# Altium footprint library clock.PcbLib: 69 footprints (part 3 of 5)
Each footprint in its own frame and in the unit in brackets; x right, y up, seen from the top. Pads: shape width x height; smd on the part's side, far side on the other; paste and mask are expansions set on the pad; w line width, h text height; cw(c..) or ccw(c..) is an arc to the next point about the centre after c.
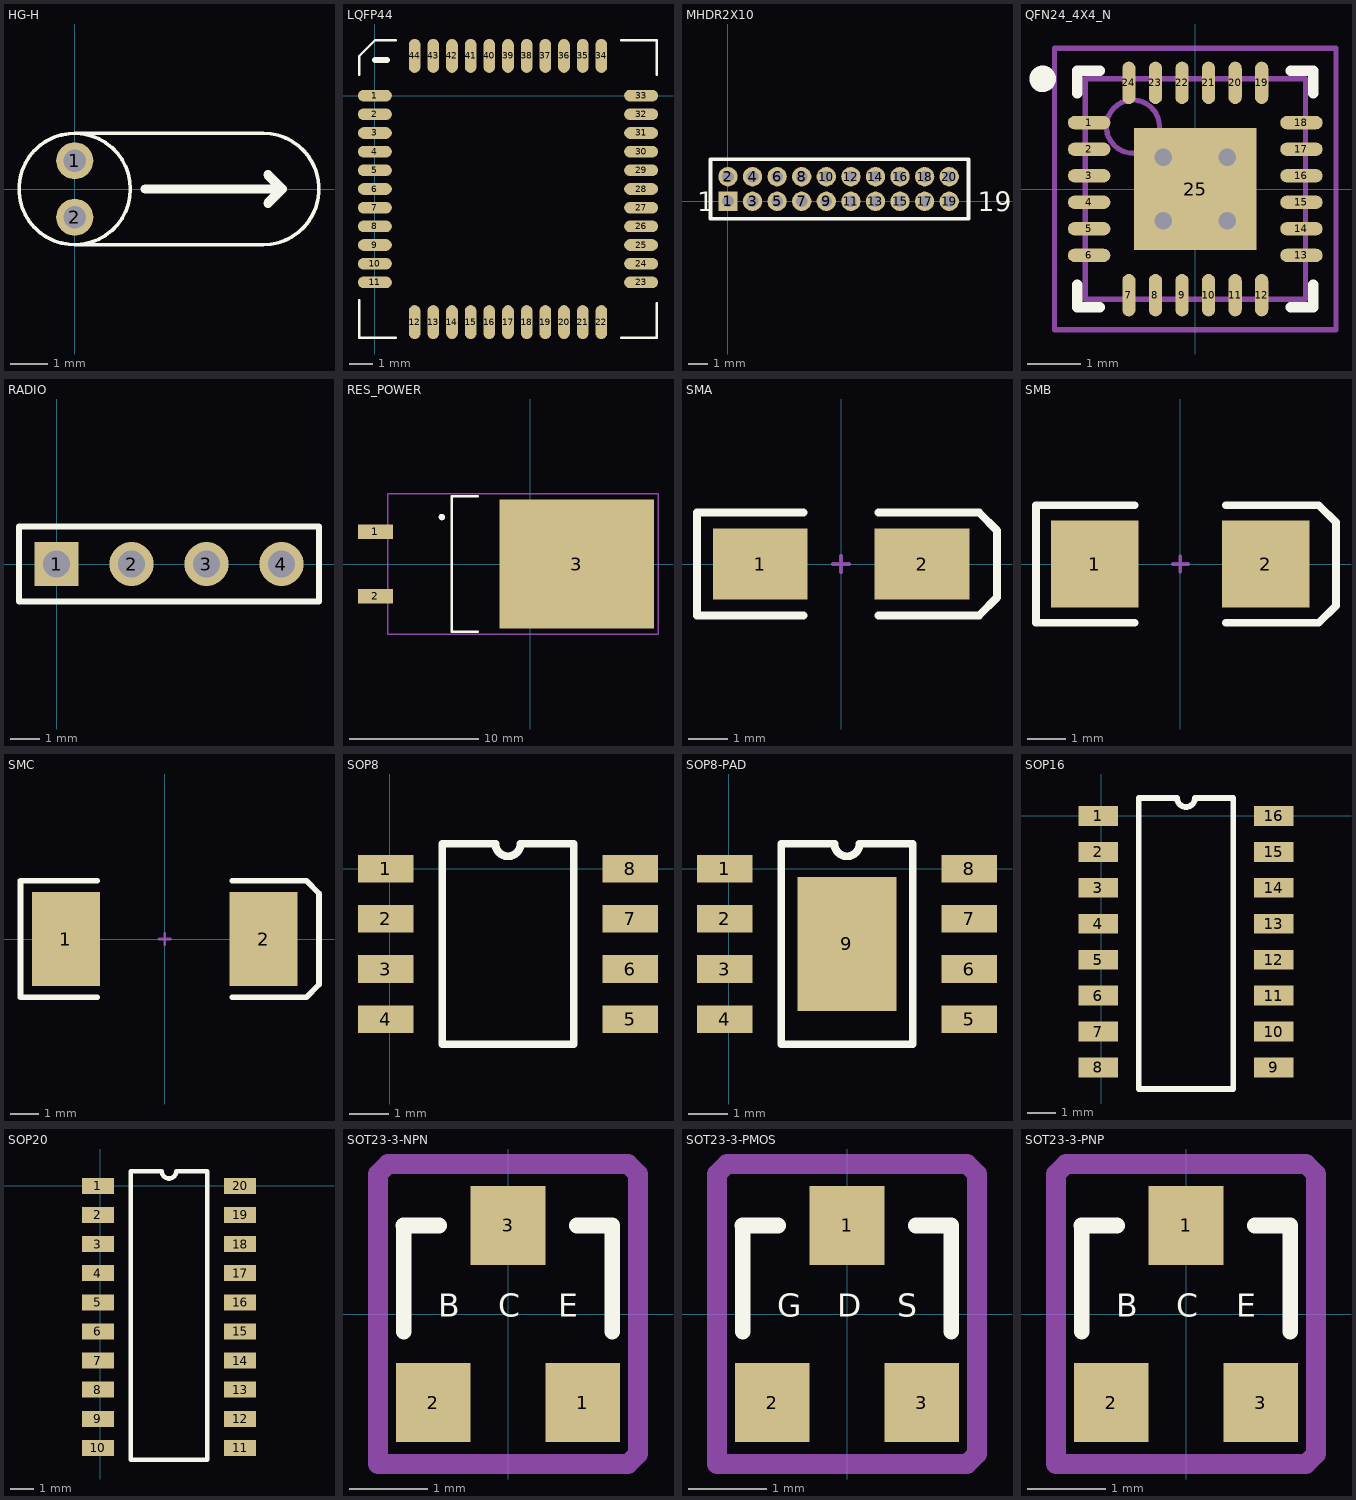
[diagram p2: the footprints below, top view; thin cyan lines are the x and y axes]

## HG-H [mm]
pads (2):
  round 1 hole 0.6: 1(0,0.762) 2(0,-0.762)
Top Overlay:
  circle w0.1: c0,0 r1.5
  lines w0.1: 0,-1.5 5.08,-1.5 ccw(c5.08,0) 5.08,1.5 0,1.5
  lines w0.254: 1.905,0 5.588,0 ; 5.207,-0.381 5.588,0 ; 5.207,0.381 5.588,0

## LQFP44 [mm]
pads (44):
  oval 1.45x0.5 smd: 1(0,0) 2(0,-0.8) 3(0,-1.6) 4(0,-2.4) 5(0,-3.2) 6(0,-4) 7(0,-4.8) 8(0,-5.6) 9(0,-6.4) 10(0,-7.2) 11(0,-8) 23(11.4,-8) 24(11.4,-7.2) 25(11.4,-6.4) 26(11.4,-5.6) 27(11.4,-4.8) 28(11.4,-4) 29(11.4,-3.2) 30(11.4,-2.4) 31(11.4,-1.6) 32(11.4,-0.8) 33(11.4,0)
  oval 0.5x1.45 smd: 12(1.7,-9.7) 13(2.5,-9.7) 14(3.3,-9.7) 15(4.1,-9.7) 16(4.9,-9.7) 17(5.7,-9.7) 18(6.5,-9.7) 19(7.3,-9.7) 20(8.1,-9.7) 21(8.9,-9.7) 22(9.7,-9.7) 34(9.7,1.7) 35(8.9,1.7) 36(8.1,1.7) 37(7.3,1.7) 38(6.5,1.7) 39(5.7,1.7) 40(4.9,1.7) 41(4.1,1.7) 42(3.3,1.7) 43(2.5,1.7) 44(1.7,1.7)
Top Overlay:
  lines w0.1: -0.675,-8.763 -0.675,-10.375 0.889,-10.375 ; -0.675,0.889 -0.675,1.7 0,2.375 0.889,2.375 ; 10.541,-10.375 12.075,-10.375 12.075,-8.89 ; 10.541,2.375 12.075,2.375 12.075,0.889
  lines w0.254: 0,1.524 0.508,1.524

## MHDR2X10 [mm] "Connector; Header; 10x2 Position"
pads (20):
  rect 1x1 hole 0.6: 1(0,0)
  round 1 hole 0.6: 2(0,1.27) 3(1.27,0) 4(1.27,1.27) 5(2.54,0) 6(2.54,1.27) 7(3.81,0) 8(3.81,1.27) 9(5.08,0) 10(5.08,1.27) 11(6.35,0) 12(6.35,1.27) 13(7.62,0) 14(7.62,1.27) 15(8.89,0) 16(8.89,1.27) 17(10.16,0) 18(10.16,1.27) 19(11.43,0) 20(11.43,1.27)
Top Overlay:
  lines w0.2: -0.9,-0.9 12.43,-0.9 12.43,2.17 -0.9,2.17 -0.9,-0.9
  text "1" at -1.6,-0.508 h1
  text "19" at 12.9,-0.508 h1

## QFN24_4X4_N [mm] "QFN, 24-Leads, Body 4x4mm, Pitch 0.5mm, IPC Medium Density"
height 1
pads (25):
  oval 0.8x0.25 smd: 1(-2,1.25) 2(-2,0.75) 3(-2,0.25) 4(-2,-0.25) 5(-2,-0.75) 6(-2,-1.25) 13(2,-1.25) 14(2,-0.75) 15(2,-0.25) 16(2,0.25) 17(2,0.75) 18(2,1.25)
  oval 0.25x0.8 smd: 7(-1.25,-2) 8(-0.75,-2) 9(-0.25,-2) 10(0.25,-2) 11(0.75,-2) 12(1.25,-2) 19(1.25,2) 20(0.75,2) 21(0.25,2) 22(-0.25,2) 23(-0.75,2) 24(-1.25,2)
  rect 2.3x2.3 smd: 25(0,0)
via -0.6,0.6 diameter 0.66 hole 0.33
via 0.6,0.6 diameter 0.66 hole 0.33
via -0.6,-0.6 diameter 0.66 hole 0.33
via 0.6,-0.6 diameter 0.66 hole 0.33
Top Overlay:
  circle w0.25: c-2.875,2.075 r0.125
  lines w0.2: -2.225,-1.8 -2.225,-2.225 -1.8,-2.225 ; -2.225,1.8 -2.225,2.225 -1.8,2.225 ; 1.8,-2.225 2.225,-2.225 2.225,-1.8 ; 1.8,2.225 2.225,2.225 2.225,1.8
Mechanical 13:
  circle w0.1: c-1.175,1.175 r0.5
  lines w0.1: -2.075,-2.075 -2.075,2.075 2.075,2.075 2.075,-2.075 -2.075,-2.075
Mechanical 15:
  lines w0.1: -0.5,0 0.5,0 ; 0,-0.5 0,0.5 ; -2.65,-2.65 -2.65,2.65 2.65,2.65 2.65,-2.65 -2.65,-2.65
3D body: height 1, standoff 0, extent -2.075,-2.075 2.075,2.075

## RADIO [mm] "Connector; Header; 4 Position"
pads (4):
  rect 1.5x1.5 hole 0.9: 1(0,0)
  round 1.5 hole 0.9: 2(2.54,0) 3(5.08,0) 4(7.62,0)
Top Overlay:
  lines w0.2: -1.27,-1.27 -1.27,1.27 8.89,1.27 8.89,-1.27 -1.27,-1.27

## RES_POWER [mm] "D2-PAK, 4-Leads, Body 8.8x10.4mm, Pitch 2.54mm, Lead Span 15.1mm, IPC Low Density"
height 4.69
pads (3):
  rect 2.7x1.1 smd: 1(-12,2.5) 2(-12,-2.5)
  rect 12x10 smd: 3(3.6,0)
Top Overlay:
  circle w0.25: c-6.85,3.64 r0.125
  lines w0.2: -6.096,-5.25 -4.064,-5.25 ; -6.096,-5.2 -6.096,5.2 ; -6.096,5.25 -4.071,5.25
Mechanical 15:
  lines w0.1: 0,-0.5 0,0.5 ; -11.049,-5.461 -11.049,-3.27 -11.049,3.143 -11.049,5.461 9.906,5.461 9.906,-5.461 -11.049,-5.461
3D body: height 4.69, standoff 0, extent -5.969,-5.08 3.048,5.08

## SMA [mm] "DO-214-AC/SMA; 2 C-Bend Leads; Body 5 x 2.7 mm, inc. leads (LxW)"
height 2.44
pads (2):
  rect 2.4x1.8 smd: 1(-2.05,0) 2(2.05,0)
Top Overlay:
  lines w0.2: -0.95,-1.3 -3.65,-1.3 -3.65,1.3 -0.95,1.3 ; 0.95,-1.3 3.5,-1.3 3.95,-0.85 3.95,0.85 3.5,1.3 0.95,1.3
Mechanical 1:
  lines w0.1: -0.2,0 0.2,0 ; 0,-0.2 0,0.2

## SMB [mm] "DO-214-AA/SMB; 2 C-Bend Leads; Body 5.3 x 3.6 mm, inc. leads (LxW)"
height 2.54
pads (2):
  rect 2.3x2.3 smd: 1(-2.25,0) 2(2.25,0)
Top Overlay:
  lines w0.2: -1.2,-1.55 -3.8,-1.55 -3.8,1.55 -1.2,1.55 ; 1.2,-1.55 3.65,-1.55 4.1,-1.1 4.1,1.1 3.65,1.55 1.2,1.55
Mechanical 1:
  lines w0.1: -0.2,0 0.2,0 ; 0,-0.2 0,0.2

## SMC [mm] "DO-214-AB/SMC; 2 C-Bend Leads; Body 7.9 x 5.9 mm, inc. leads (LxW)"
height 2.57
pads (2):
  rect 2.4x3.3 smd: 1(-3.475,0) 2(3.475,0)
Top Overlay:
  lines w0.2: -2.375,-2.05 -5.075,-2.05 -5.075,2.05 -2.375,2.05 ; 2.375,-2.05 4.975,-2.05 5.425,-1.6 5.425,1.6 4.975,2.055 ; 2.375,2.05 4.975,2.05
Mechanical 1:
  lines w0.1: -0.2,0 0.2,0 ; 0,-0.2 0,0.2

## SOP8 [mm]
pads (8):
  rect 1.4x0.7 smd: 1(-0.1,0) 2(-0.1,-1.27) 3(-0.1,-2.54) 4(-0.1,-3.81) 5(6.1,-3.81) 6(6.1,-2.54) 7(6.1,-1.27) 8(6.1,0)
Top Overlay:
  lines w0.2: 1.335,-4.445 4.665,-4.445 4.665,0.635 3.317,0.635 cw(c3,0.635) 2.682,0.635 1.335,0.635 1.335,-4.445

## SOP8-PAD [mm]
pads (9):
  rect 1.4x0.7 smd: 1(-0.1,0) 2(-0.1,-1.27) 3(-0.1,-2.54) 4(-0.1,-3.81) 5(6.1,-3.81) 6(6.1,-2.54) 7(6.1,-1.27) 8(6.1,0)
  rect 2.5x3.4 smd: 9(3,-1.905)
Top Overlay:
  lines w0.2: 1.335,-4.445 4.665,-4.445 4.665,0.635 3.317,0.635 cw(c3,0.635) 2.682,0.635 1.335,0.635 1.335,-4.445

## SOP16 [mm]
pads (16):
  rect 1.4x0.7 smd: 1(-0.1,0) 2(-0.1,-1.27) 3(-0.1,-2.54) 4(-0.1,-3.81) 5(-0.1,-5.08) 6(-0.1,-6.35) 7(-0.1,-7.62) 8(-0.1,-8.89) 9(6.1,-8.89) 10(6.1,-7.62) 11(6.1,-6.35) 12(6.1,-5.08) 13(6.1,-3.81) 14(6.1,-2.54) 15(6.1,-1.27) 16(6.1,0)
Top Overlay:
  lines w0.2: 1.335,-9.652 1.335,0.635 2.682,0.635 ccw(c3,0.635) 3.317,0.635 4.665,0.635 4.665,-9.652 1.335,-9.652

## SOP20 [mm]
pads (20):
  rect 1.4x0.7 smd: 1(-0.1,0) 2(-0.1,-1.27) 3(-0.1,-2.54) 4(-0.1,-3.81) 5(-0.1,-5.08) 6(-0.1,-6.35) 7(-0.1,-7.62) 8(-0.1,-8.89) 9(-0.1,-10.16) 10(-0.1,-11.43) 11(6.1,-11.43) 12(6.1,-10.16) 13(6.1,-8.89) 14(6.1,-7.62) 15(6.1,-6.35) 16(6.1,-5.08) 17(6.1,-3.81) 18(6.1,-2.54) 19(6.1,-1.27) 20(6.1,0)
Top Overlay:
  lines w0.2: 1.335,-11.938 4.665,-11.938 4.665,0.635 3.317,0.635 cw(c3,0.635) 2.682,0.635 1.335,0.635 1.335,-11.938

## SOT23-3-NPN [mm] "SOT-23; 3 Leads; Body 3.0 x 2.5 mm, inc. leads (LxW max)"
height 1.2
pads (3):
  rect 0.95x1 smd: 1(0.95,-1.125) 2(-0.95,-1.125) 3(0,1.125)
Top Overlay:
  lines w0.2: -1.328,1.125 -0.875,1.125 ; -1.325,-0.225 -1.325,1.125 ; 0.875,1.125 1.325,1.125 1.325,-0.225
  text "C" at -0.127,-0.127 h0.5
  text "E" at 0.635,-0.127 h0.5
  text "B" at -0.889,-0.127 h0.5
Mechanical 15:
  lines w0.254: -1.651,-1.905 1.524,-1.905 1.651,-1.778 1.651,1.778 1.524,1.905 -1.524,1.905 -1.651,1.778 -1.651,-1.651 -1.651,-1.905

## SOT23-3-PMOS [mm] "SOT-23; 3 Leads; Body 3.0 x 2.5 mm, inc. leads (LxW max)"
height 1.2
pads (3):
  rect 0.95x1 smd: 1(0,1.125) 2(-0.95,-1.125) 3(0.95,-1.125)
Top Overlay:
  lines w0.2: -1.328,1.125 -0.875,1.125 ; -1.325,-0.225 -1.325,1.125 ; 0.875,1.125 1.325,1.125 1.325,-0.225
  text "G" at -0.889,-0.127 h0.5
  text "S" at 0.635,-0.127 h0.5
  text "D" at -0.127,-0.127 h0.5
Mechanical 15:
  lines w0.254: -1.651,-1.905 -1.651,-1.651 -1.651,1.778 -1.524,1.905 1.524,1.905 1.651,1.778 1.651,-1.778 1.524,-1.905 -1.651,-1.905

## SOT23-3-PNP [mm] "SOT-23; 3 Leads; Body 3.0 x 2.5 mm, inc. leads (LxW max)"
height 1.2
pads (3):
  rect 0.95x1 smd: 1(0,1.125) 2(-0.95,-1.125) 3(0.95,-1.125)
Top Overlay:
  lines w0.2: -1.328,1.125 -0.875,1.125 ; -1.325,-0.225 -1.325,1.125 ; 0.875,1.125 1.325,1.125 1.325,-0.225
  text "C" at -0.127,-0.127 h0.5
  text "E" at 0.635,-0.127 h0.5
  text "B" at -0.889,-0.127 h0.5
Mechanical 15:
  lines w0.254: -1.651,-1.905 1.524,-1.905 1.651,-1.778 1.651,1.778 1.524,1.905 -1.524,1.905 -1.651,1.778 -1.651,-1.651 -1.651,-1.905